# Altium schematic symbol library tps61170.SchLib: 1 symbol
Pins are listed as number, name and electrical type; pins without a type are passive.

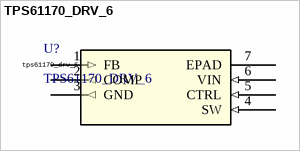
[diagram p0: symbol TPS61170_DRV_6]

## TPS61170_DRV_6
designator U?
Imported; Vendor: Texas Instruments; PACKAGE_DESIGNATOR: DRV; PIN_COUNT: 6; FAMILY_NAME: STEP-UP REGULATOR; INDUSTRY_STD_PKG_TYPE: SON; GENERIC_PART_NUMBER: TPS61170; Manufacturer: Texas Instruments; Datasheet_URL: http://www.ti.com/lit/gpn/TPS61170; Value: Value; Type: Type; RefDes: RefDes; Supplier 1: Digi-Key; Supplier Part Number 1: 296-32502-1-ND; Manufacturer_Part_Number: tps61170_drv_6
footprint DRV6_1P6X1
pins: 1 FB (in), 2 COMP (out), 3 GND (out), 4 SW (in), 5 CTRL (in), 6 VIN (in), 7 EPAD